# Altium integrated library TE Audio, Video and High Speed Serial Connectors.IntLib: 8 symbols
Pins are listed as number, name and electrical type; pins without a type are passive.

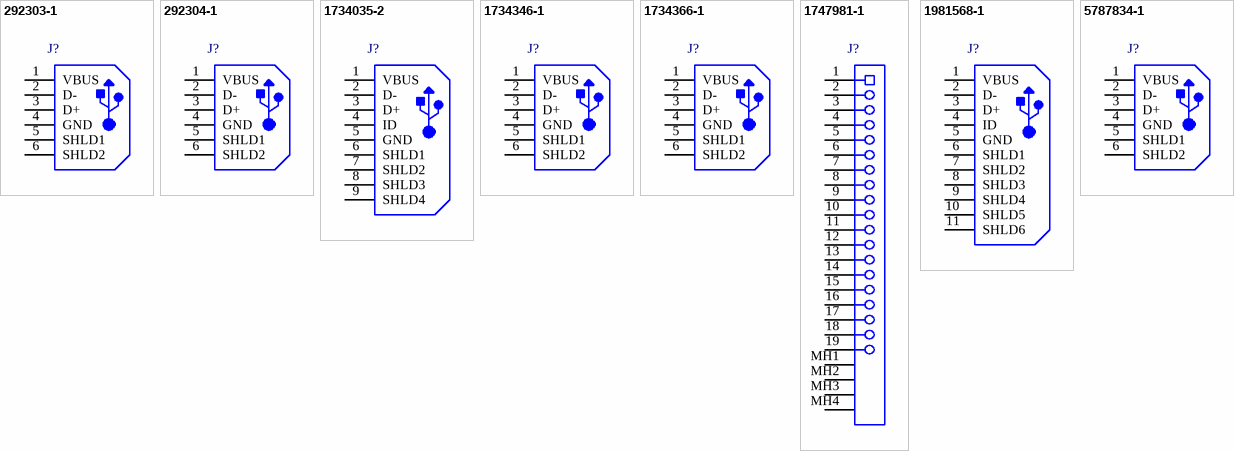
[diagram p0: symbols 292303-1 to 5787834-1]

## 292303-1
designator J?
1 Port Right Angle Through Hole Mount Female Type A USB Connector, 4 Position, -55 to 85 degC, RoHS, Tube; Connector Mounting: PCB; Gender: Receptacle; Connector Type: USB A; No. of Contacts: 4; Contact Termination Type: Solder; SVHC: No SVHC (16-Jun-2014); PackageReference: THD; PackageDescription: 4-Pin Through Hole Device, Body 14 x 13.13 mm, Pitch 2.5 mm; Supplier 1: Digi-Key; Supplier Part Number 1: A31726-ND; Contact Plating: Gold; Contact Material: Copper; Mounting Technology: Through Hole; ComponentLink1Description: Manufacturer URL; ComponentLink1URL: http://www.te.com; ComponentLink2Description: Datasheet; ComponentLink2URL: http://www.farnell.com/cad/1653030.pdf
footprint TE-292303-1_V (THD, 4-Leads, Body 13.13x14mm, Pitch 2.5mm)
pins: 1 VBUS, 2 D-, 3 D+, 4 GND, 5 SHLD1, 6 SHLD2

## 292304-1
designator J?
1 Port Right Angle Through Hole Mount Female Type B USB Connector, 4 Position, -55 to 85 degC, RoHS, Tray; Gender: Receptacle; USB Standard: USB 2.0; USB Connector Type: USB Type B; No. of Positions: 4; SVHC: To Be Advised; PackageReference: THD; PackageDescription: THD, 4-Leads, Body 15.71x12.04mm, Pitch 2.5mm; Supplier 1: Digi-Key; Supplier Part Number 1: A31725-ND; Connector Mounting: Through Hole; Orientation: Right Angle; Series: B; Contact Plating: Gold; Contact Material: Copper Alloy; Mounting Technology: Through Hole; ComponentLink1Description: Manufacturer URL; ComponentLink1URL: http://www.te.com; ComponentLink2Description: Datasheet; ComponentLink2URL: https://datasheet.ciiva.com/851/eng-cd-292304-d2-851088.pdf
footprint TECO-292304-1-4_V (THD, 4-Leads, Body 15.71x12.04mm, Pitch 2.5mm)
pins: 1 VBUS, 2 D-, 3 D+, 4 GND, 5 SHLD1, 6 SHLD2

## 1734035-2
designator J?
Surface Mount Type B Mini USB, 5 Positions, 0.8 mm Pitch, 0 to 50 degC, RoHS, Tape and Reel; Number of Contacts: 5; Number of Ports: 1; Gender: RCP; Body Orientation: Right Angle; Pitch: 0.8 mm; DatasheetVersion: Rev. B1; PackageReference: SMD; PackageDescription: SMD, 5-Leads, Body 9.9x9.2mm, Pitch 0.8mm; Supplier 1: Newark; Supplier Part Number 1: 16M3869; Supplier 2: Newark; Supplier Part Number 2: 60R3590; Supplier 3: Newark; Supplier Part Number 3: 82T9814; Supplier 4: Farnell; Supplier Part Number 4: 2059755; Supplier 5: Farnell; Supplier Part Number 5: 2399619; Supplier 6: Digi-Key; Supplier Part Number 6: A31727TR-ND; Supplier 7: Digi-Key; Supplier Part Number 7: A31727CT-ND; Supplier 8: Digi-Key; Supplier Part Number 8: A31727DKR-ND; Termination Method: Solder; Operating Temperature: N/A; Color: Black; Number of Terminals: 5; RoHS: Yes; Packaging: Tape and Reel; Dimension: 4.14mm; Maximum Voltage Rating: N/A; Maximum Current Rating: N/A; Mounting: Surface Mount; Housing Material: Thermoplastic; Contact Plating: Gold Over Nickel; Type: USB; Contact Material: Phosphor Bronze; ComponentLink1Description: Manufacturer URL; ComponentLink1URL: http://www.te.com; ComponentLink2Description: Datasheet; ComponentLink2URL: https://datasheet.ciiva.com/11759/0900766b80ed62f8-11759638.pdf
footprint TECO-1734035-2-5_V (SMD, 5-Leads, Body 9.9x9.2mm, Pitch 0.8mm)
pins: 1 VBUS, 2 D-, 3 D+, 4 ID, 5 GND, 6 SHLD1, 7 SHLD2, 8 SHLD3, 9 SHLD4

## 1734346-1
designator J?
USB-B Receptacle Connector, Height 10.87 mm, 0 to 50 degC, RoHS, Tray; Connector Mounting: Surface Mount; USB Standard: USB 2.0; USB Connector Type: USB Type B; No. of Positions: 4; SVHC: To Be Advised; DatasheetVersion: Rev. C; PackageReference: SMD; PackageDescription: 4-Pin Pin Surface Mount Device, Body 12.04 x 16 mm, Height 10.87 mm; Supplier 1: Newark; Supplier Part Number 1: 31M6448; Supplier 2: Farnell; Supplier Part Number 2: 1321918; Supplier 3: Digi-Key; Supplier Part Number 3: A114945-ND; Orientation: Right Angle; Gender: Receptacle; Series: B; Contact Plating: Gold; Contact Material: Phosphor Bronze; Mounting Technology: Surface Mount; ComponentLink1Description: Manufacturer URL; ComponentLink1URL: http://www.te.com; ComponentLink2Description: Datasheet; ComponentLink2URL: http://www.te.com/commerce/DocumentDelivery/DDEController?Action=srchrtrv&DocNm=1734346&DocType=Customer+Drawing&DocLang=English
footprint TECO-1734346-1_V (SMD, 4-Leads, Body 12.04x16mm, Height 10.87 mm)
pins: 1 VBUS, 2 D-, 3 D+, 4 GND, 5 SHLD1, 6 SHLD2

## 1734366-1
designator J?
Female Header, 1 x 4 Position, Height 15 mm, Tail Length 2.8 mm, -40 to 80 degC,  RoHS, Tray; Number of Contacts: 4; Number of Ports: 1; Gender: RCP; Maximum Voltage Rating: 30 VAC; Maximum Current Rating: 1/Contact A; Body Orientation: Straight; DatasheetVersion: Rev. C5; PackageReference: THD; PackageDescription: Female Header, 1 x 4 Position, Height 15 mm, Tail Length 2.8 mm; Supplier 1: Newark; Supplier Part Number 1: 18M6973; Supplier 2: Digi-Key; Supplier Part Number 2: A114947-ND; Termination Method: Solder; Operating Temperature: -55 to 85 C; Color: Black; Number of Terminals: 4; RoHS: Yes; Packaging: Tray; Dimension: 14.5 x 7.12 x 15mm; Mounting: Through Hole; Housing Material: Thermoplastic; Pitch: N/A; Contact Plating: Gold Over Nickel; Type: USB; Contact Material: Phosphor Bronze; ComponentLink1Description: Manufacturer URL; ComponentLink1URL: http://www.te.com; ComponentLink2Description: Datasheet; ComponentLink2URL: http://www.te.com/commerce/DocumentDelivery/DDEController?Action=showdoc&DocId=Customer+Drawing%7F1734366%7FC5%7Fpdf%7FEnglish%7FENG_CD_1734366_C5.pdf%7F1734366-1
footprint TE-1734366-1_V (Connector, 6-Leads, Body 7.62x15mm)
pins: 1 VBUS, 2 D-, 3 D+, 4 GND, 5 SHLD1, 6 SHLD2

## 1747981-1
designator J?
HDMI Receptacle, Pitch 0.5 mm, 19 Position, Height 6.38 mm, RoHS, Tape and Reel; Number of Contacts: 19; Number of Ports: 1; Gender: RCP; Body Orientation: Straight; Pitch: 0.5 mm; DatasheetVersion: Rev. F5; PackageReference: SMD; PackageDescription: HDMI Receptacle, Pitch 0.5 mm, 19 Position, Height 6.38 mm; Supplier 1: Digi-Key; Supplier Part Number 1: A35071TR-ND; Supplier 2: Digi-Key; Supplier Part Number 2: A35071CT-ND; Supplier 3: Digi-Key; Supplier Part Number 3: A35071DKR-ND; Termination Method: Solder; Operating Temperature: N/A; Color: Black; Number of Terminals: 19; RoHS: Yes; Packaging: Embossed Tape and Reel; Dimension: 15 x 11.55 x 14.25mm; Maximum Voltage Rating: N/A; Maximum Current Rating: N/A; Mounting: Surface Mount; Housing Material: Thermoplastic; Contact Plating: Gold Over Nickel; Type: HDMI; Contact Material: Copper Alloy; ComponentLink1Description: Manufacturer URL; ComponentLink1URL: http://www.te.com; ComponentLink2Description: Datasheet; ComponentLink2URL: http://www.te.com/commerce/DocumentDelivery/DDEController?Action=showdoc&DocId=Customer+Drawing%7F1747981%7FF5%7Fpdf%7FEnglish%7FENG_CD_1747981_F5.pdf%7F1747981-1
footprint TE-1747981-1_V (Connector, 19-Leads, Body 11.55x15mm, Pitch 0.5mm)
pins: 1, 2, 3, 4, 5, 6, 7, 8, 9, 10, 11, 12, 13, 14, 15, 16, 17, 18, 19, MH1 SHLD1, MH2 SHLD2, MH3 SHLD3, MH4 SHLD4

## 1981568-1
designator J?
Micro USB Receptacle Standard Type B Assy, 5-Pin SMD, RoHS, Tape and Reel; Number of Contacts: 5 POS; Number of Ports: 1 Port; Product Length (mm): 8 mm; Gender: RCP; Current Rating (Max): 1/Contact A; Voltage Rating Max: 30VAC; Body Orientation: Right Angle; Product Depth (mm): 5.6 mm; Pitch (mm): 0.65 mm; Product Height (mm): 3 mm; DatasheetVersion: Rev. E2; PackageReference: SMD; PackageDescription: SMD, 5-Leads, Body 8x5.9mm, Pitch 0.65mm; Supplier 1: Digi-Key; Supplier Part Number 1: A97800TR-ND; Supplier 2: Digi-Key; Supplier Part Number 2: A97800CT-ND; Supplier 3: Digi-Key; Supplier Part Number 3: A97800DKR-ND; Termination Method: Solder; Operating Temperature Min Deg. C: -55C; Operating Temperature Max Deg. C: 85C; Number of Terminals: 5; Mounting Style: Surface Mount; Packaging: Tape and Reel; Housing Material: Thermoplastic; Contact Plating: Gold Over Nickel; Type: Micro USB; Contact Material: Copper Alloy; Operating Temp Range: -55C to 85C; ComponentLink1Description: Manufacturer URL; ComponentLink1URL: http://www.te.com; ComponentLink2Description: Datasheet; ComponentLink2URL: http://www.mouser.com/ds/2/418/NG_CD_1981568_E2-621296.pdf
footprint TECO-1981568-5_V (SMD, 5-Leads, Body 8x5.9mm, Pitch 0.65mm)
pins: 1 VBUS, 2 D-, 3 D+, 4 ID, 5 GND, 6 SHLD1, 7 SHLD2, 8 SHLD3, 9 SHLD4, 10 SHLD5, 11 SHLD6

## 5787834-1
designator J?
USB-B Receptacle Connector, Height 15.62 mm, -55 to 85 degC, RoHS, Tray; Number of Contacts: 4; Number of Ports: 1; Gender: RCP; Body Orientation: Straight; Pitch: 2.5 mm; DatasheetVersion: Rev. A4; PackageReference: THD; PackageDescription: 4-Pin Through Hole Device, Body 12.03 x 11.46 mm, Height 15.62 mm; Supplier 1: Digi-Key; Supplier Part Number 1: 5787834-1-ND; Termination Method: Solder; Operating Temperature: N/A; Color: Black; Number of Terminals: 4; RoHS: Yes; Packaging: Tray; Dimension: 12.03 x 11.46 x 15.62mm; Maximum Voltage Rating: N/A; Maximum Current Rating: N/A; Mounting: Through Hole; Housing Material: Thermoplastic; Contact Plating: Gold Over Palladium Nickel,Gold Over Nickel; Type: USB; Contact Material: Copper Alloy; ComponentLink1Description: Manufacturer URL; ComponentLink1URL: http://www.te.com; ComponentLink2Description: Datasheet; ComponentLink2URL: http://www.te.com/commerce/DocumentDelivery/DDEController?Action=srchrtrv&DocNm=5787834&DocType=Customer+Drawing&DocLang=English
footprint TECO-5787834-1_V (THD, 4-Leads, Body 12.03x11.46mm, Pitch 2.5mm)
pins: 1 VBUS, 2 D-, 3 D+, 4 GND, 5 SHLD1, 6 SHLD2